# Altium footprint library 28Pins.PcbLib: 26 footprints (part 2 of 2)
Each footprint in its own frame and in the unit in brackets; x right, y up, seen from the top. Pads: shape width x height; smd on the part's side, far side on the other; paste and mask are expansions set on the pad; w line width, h text height; cw(c..) or ccw(c..) is an arc to the next point about the centre after c.
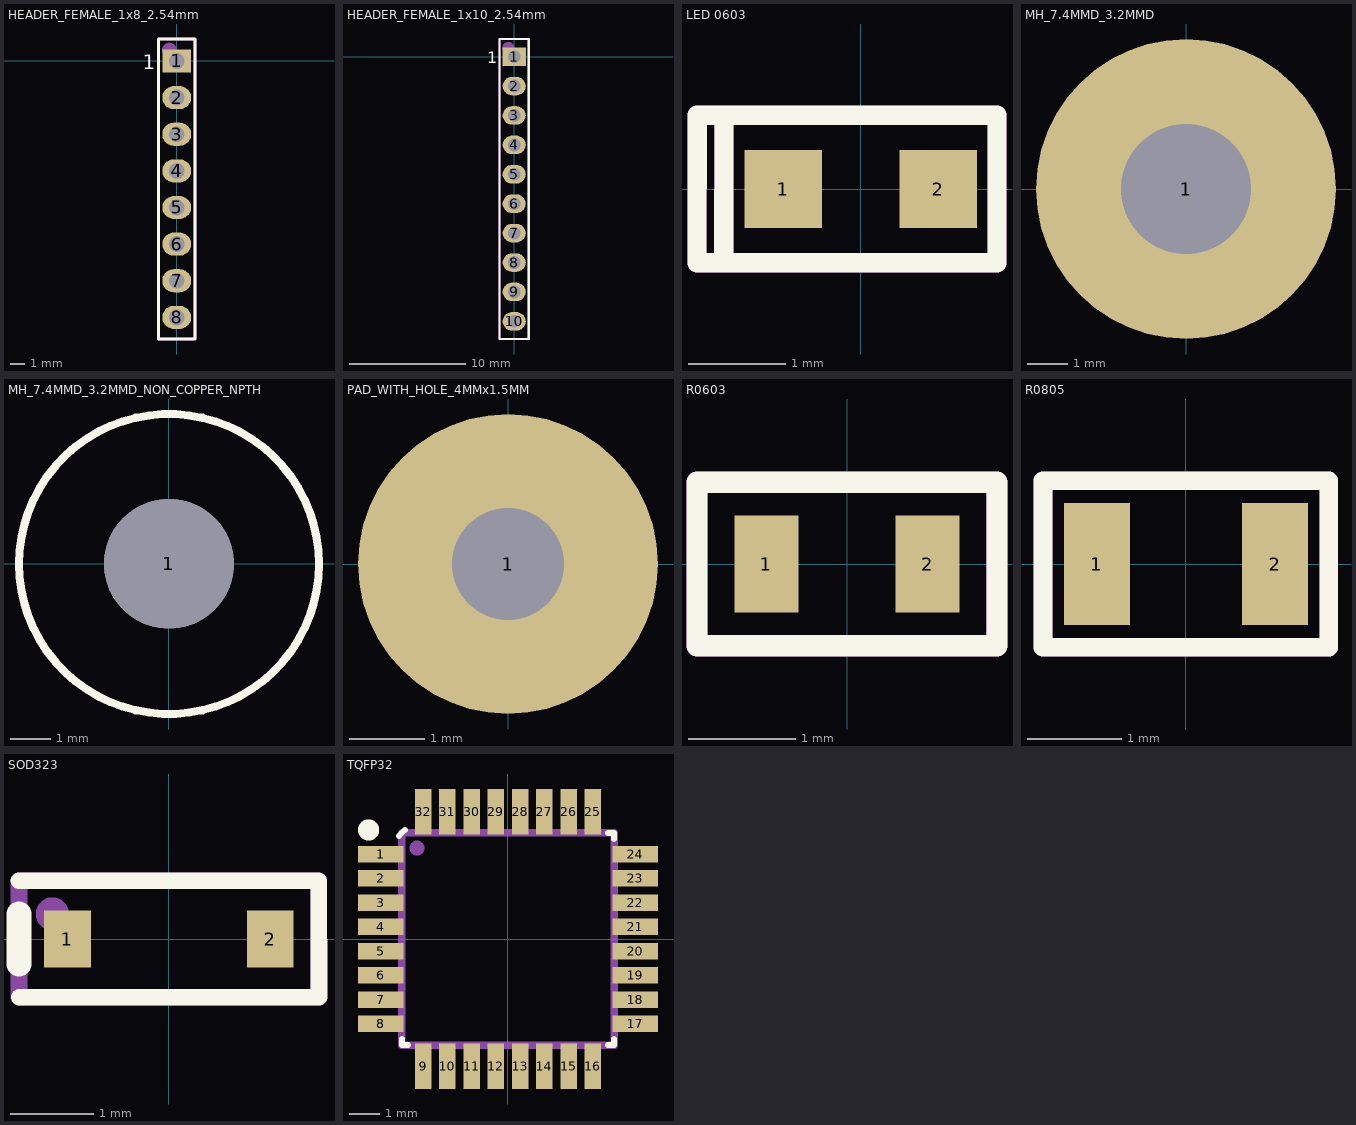
[diagram p1: the footprints below, top view; thin cyan lines are the x and y axes]

## HEADER_FEMALE_1x8_2.54mm [mm]
pads (8):
  rect 2x1.6 hole 1.1: 1(0,0)
  oval 2x1.6 hole 1.1: 2(0,-2.54) 3(0,-5.08) 4(0,-7.62) 5(0,-10.16) 6(0,-12.7) 7(0,-15.24) 8(0,-17.78)
Top Overlay:
  lines w0.2: -1.27,-19.279 1.27,-19.279 1.27,1.524 -1.27,1.524 -1.27,-19.279
  text "1" at -2.34,-0.562 h1
Mechanical 29:
  circle w0.5: c-0.508,0.762 r0.254
  lines w0.2: -1.27,-19.279 1.27,-19.279 1.27,1.524 -1.27,1.524 -1.27,-19.279
  text ".Designator" at 0.467,-11.255 h1.2
3D body "m20-7820842_asm.stp": height 8.51, standoff -2.99, extent -1.25,-19.25 1.25,1.47

## HEADER_FEMALE_1x10_2.54mm [mm]
pads (10):
  rect 2x1.6 hole 1.1: 1(0,0)
  oval 2x1.6 hole 1.1: 2(0,-2.54) 3(0,-5.08) 4(0,-7.62) 5(0,-10.16) 6(0,-12.7) 7(0,-15.24) 8(0,-17.78) 9(0,-20.32) 10(0,-22.86)
Top Overlay:
  lines w0.2: -1.27,-24.384 -1.27,1.524 1.27,1.524 1.27,-24.384 -1.27,-24.384
  text "1" at -2.34,-0.562 h1
Mechanical 29:
  circle w0.5: c-0.508,0.762 r0.254
  lines w0.2: -1.27,-24.384 -1.27,1.524 1.27,1.524 1.27,-24.384 -1.27,-24.384
  text ".Designator" at 0.569,-11.687 h1.2
3D body "m20-7821046_asm.stp": height 8.51, standoff -2.99, extent -1.25,-24.33 1.25,1.47

## LED 0603 [mm]
pads (2):
  rect 0.8x0.8 smd: 1(-0.8,0) 2(0.8,0)
Top Overlay:
  lines w0.2: -1.413,-0.762 -1.412,0.762 ; -1.413,-0.762 1.405,-0.762 1.405,0.762 -1.412,0.762 ; -1.413,-0.762 -1.69,-0.762 -1.69,0.762 -1.412,0.762
Mechanical 29:
  lines w0.2: -1.65,0.762 -1.413,0.762 ; -1.413,-0.762 -1.413,0.762 ; -1.413,-0.762 1.405,-0.762 1.405,0.762 -1.413,0.762 ; -1.413,-0.762 -1.69,-0.762 -1.69,0.762 -1.413,0.762
  text ".Designator" at -0.662,-0.208 h0.6
3D body "User Library-LED SMD 0603 super red.STEP": height 0.66, standoff 0.01, extent -0.85,-0.4 0.85,0.4
3D body: height 0.66, standoff 0.66, extent -0.254,-0.254 0.254,0.254

## MH_7.4MMD_3.2MMD [mm]
pads (1):
  round 7.4 hole 3.2: 1(0,0)

## MH_7.4MMD_3.2MMD_NON_COPPER_NPTH [mm]
pads (1):
  round 3.2 hole 3.2 unplated: 1(0,0)
Top Overlay:
  circle w0.2: c0.002,-0.005 r3.7

## PAD_WITH_HOLE_4MMx1.5MM [mm]
pads (1):
  round 4 hole 1.5: 1(0,0)

## R0603 [mm]
pads (2):
  rect 0.6x0.9 smd: 1(-0.75,0) 2(0.75,0)
Top Overlay:
  lines w0.2: -1.397,-0.762 -1.397,0.762 1.397,0.762 1.397,-0.762 -1.397,-0.762
Mechanical 29:
  lines w0.2: -1.397,-0.762 1.396,-0.762 1.396,0.762 -1.397,0.762 -1.397,-0.762
  text ".Designator" at -0.662,-0.208 h0.6
3D body "R0603.step": height 0.81, standoff 0.01, extent -0.8,-0.425 0.8,0.415

## R0805 [mm]
pads (2):
  rect 0.7x1.3 smd: 1(-0.95,0) 2(0.95,0)
Top Overlay:
  lines w0.2: -1.524,-0.889 1.524,-0.889 1.524,0.889 -1.524,0.889 -1.524,-0.889
Mechanical 29:
  lines w0.2: -1.524,-0.889 -1.524,0.889 1.524,0.889 1.524,-0.889 -1.524,-0.889
  text ".Designator" at -0.662,-0.335 h0.6
3D body "User Library-Chip Resistor2RESC2012X70N.STEP": height 0.71, standoff 0.01, extent -1,-0.6 1,0.6

## SOD323 [mil]
pads (2):
  rect 22x27 smd: 1(-48,0) 2(48,0)
Top Overlay:
  lines w7.87: -70.94,27.56 70.79,27.56 70.96,-27.56 -70.87,-27.56
  lines w11.81: -70.87,-11.81 -70.87,11.81
Mechanical 29:
  circle w7.87: c-55.12,11.81 r3.94
  lines w7.87: -70.94,-27.49 -70.87,-27.56 70.87,-27.56 70.87,27.56 -70.94,27.56 -70.94,-27.49
  text ".Designator" at -26.06,-8.19 h23.62
3D body "User Library-SOD323.STEP": height 39.48, standoff 0.5, extent -49.21,-24.6 49.21,24.61

## TQFP32 [mm]
pads (32):
  rect 1.5x0.55 smd mask+0.06: 1(-4.2,2.8) 2(-4.2,2) 3(-4.2,1.2) 4(-4.2,0.4) 5(-4.2,-0.4) 6(-4.2,-1.2) 7(-4.2,-2) 8(-4.2,-2.8) 17(4.2,-2.8) 18(4.2,-2) 19(4.2,-1.2) 20(4.2,-0.4) 21(4.2,0.4) 22(4.2,1.2) 23(4.2,2) 24(4.2,2.8)
  rect 0.55x1.5 smd mask+0.06: 9(-2.8,-4.2) 10(-2,-4.2) 11(-1.2,-4.2) 12(-0.4,-4.2) 13(0.4,-4.2) 14(1.2,-4.2) 15(2,-4.2) 16(2.8,-4.2) 25(2.8,4.2) 26(2,4.2) 27(1.2,4.2) 28(0.4,4.2) 29(-0.4,4.2) 30(-1.2,4.2) 31(-2,4.2) 32(-2.8,4.2)
Top Overlay:
  circle w0.5: c-4.6,3.6 r0.1
  lines w0.2: -3.6,3.4 -3.4,3.6 ; -3.5,-3.3 -3.5,-3.5 -3.3,-3.5 ; 3.3,-3.5 3.5,-3.5 3.5,-3.3 ; 3.3,3.5 3.5,3.5 3.5,3.3
Mechanical 29:
  circle w0.5: c-3,3 r0
  lines w0.25: -3.5,-3.5 -3.5,3.5 3.5,3.5 3.5,-3.5 -3.5,-3.5
  text ".Designator" at -1,-0.2 h1.2
3D body "TQFP-32.STEP": height 1.1, standoff 0, extent -4.5,-4.5 4.5,4.5